# Altium schematic symbol library Schottky.SchLib: 8 symbols
Pins are listed as number, name and electrical type; pins without a type are passive.

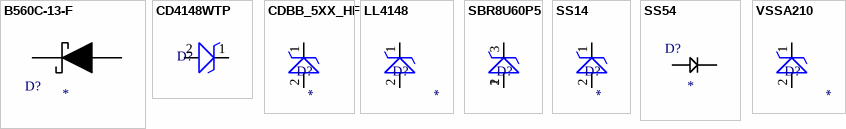
[diagram p0: symbols B560C-13-F to VSSA210]

## B560C-13-F
designator D?, comment ERP_104-3  (value not drawn)
Manufacturer 1: Diodes Incorporated; Manufacturer Part Number 1: *; Value: *
footprint B560C-13-F
pins: 1 C, 2 A

## CD4148WTP
designator D?
1.25V@100mA 150mA 200mW 4ns 5uA@75V 75V 800mA Independent 0603 Switching Diodes ROHS; Manufacturer Part Number 1: CD4148WTP; Manufacturer 1: YONGYUTAI; Package: 0603; Supplier 1: JLCPCB; Supplier Part Number 1: C30584800; Value: *
footprint CD4148WTP (1.25V@100mA 150mA 200mW 4ns 5uA@75V 75V 800mA Independent 0603 Switching Diodes ROHS)
pins: 1 K, 2 A

## CDBB_5XX_HF
designator D?
SMB(DO-214AA) DIODE HF 5A; Package: SMB; Manufacturer Part Number 1: *; Manufacturer 1: *; Value: *
footprint SMB(DO214AA)
pins: 1 K, 2 A

## LL4148
designator D?
1V@10mA 200mA 4A 4ns 500mW 5uA@75V 75V LL-34 Switching Diodes ROHS; Manufacturer Part Number 1: LL4148; Manufacturer 1: MDD(Microdiode Semiconductor); Package: LL-34; Supplier 1: JLCPCB; Supplier Part Number 1: C435829; Value: *
footprint LL-34
pins: 1 K, 2 A

## SBR8U60P5
designator D?
120uA@60V 280A 460mV@8A 60V 8A PowerDI-5 Super Barrier Rectifiers (SBR) ROHS; Manufacturer Part Number 1: SBR8U60P5-7; Manufacturer 1: Diodes Incorporated; Package: PowerDI-5; Supplier 1: JLCPCB; Supplier Part Number 1: C460954; Value: *
footprint SBR8U60P5 (Footprint not found)
pins: 1 K, 2 A, 3 K

## SS14
designator D?, comment ERP_104-3  (value not drawn)
SS14; Manufacturer 1: MDD; Package: SMA; Manufacturer Part Number 1: SS14; Value: *
footprint SMA(DO214AC)
pins: 1 K, 2 A

## SS54
designator D?, comment ERP_104-3  (value not drawn)
Supplier Part Number 1: *; Supplier  1: *; Package: SMC; Manufacturer Part Number 1: *; Manufacturer 1: *; Value: *
footprint DIOM6959X26L (Molded Diode, 2-Leads, Body 6.86x5.91mm, IPC High Density)
pins: 1 C, 2 A

## VSSA210
designator D?
100V 2A 3.5uA@100V 60A 610mV@2A SMA(DO-214AC) Schottky Diodes ROHS; Manufacturer 1: Vishay Intertech; Package: SMA; Manufacturer Part Number 1: *; Supplier 1: JLCPCB; Supplier Part Number 1: *; Value: *
footprint SMA(DO214AC)
pins: 1 K, 2 A